# Altium footprint library LED_0603_LITEON_LTST.PcbLib: 1 footprints
Each footprint in its own frame and in the unit in brackets; x right, y up, seen from the top. Pads: shape width x height; smd on the part's side, far side on the other; paste and mask are expansions set on the pad; w line width, h text height; cw(c..) or ccw(c..) is an arc to the next point about the centre after c.
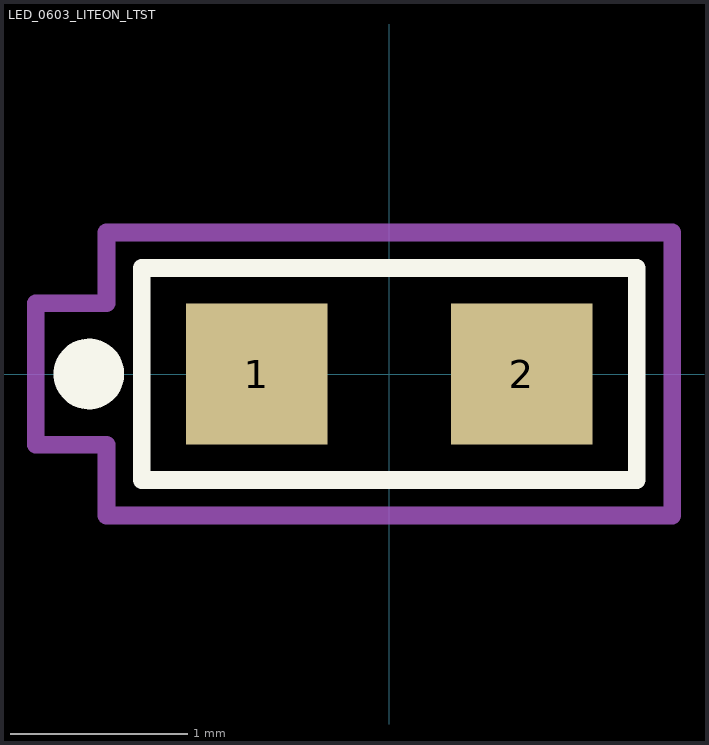
[diagram p0: the footprint, top view; thin cyan lines are the x and y axes]

## LED_0603_LITEON_LTST [mm]
pads (2):
  rect 0.8x0.8 smd: 1(-0.75,0) 2(0.75,0)
Top Overlay:
  circle w0.2: c-1.7,0 r0.1
  lines w0.1: -1.4,-0.6 -1.4,0.6 1.4,0.6 1.4,-0.6 -1.4,-0.6
Mechanical 15:
  lines w0.1: -2,-0.4 -1.6,-0.4 -1.6,-0.8 1.6,-0.8 1.6,0.8 -1.4,0.8 -1.6,0.8 -1.6,0.4 -2,0.4 -2,-0.4
3D body "led_LTST_C190EKT.STEP": height 0.9, standoff 0, extent -0.85,-0.45 0.85,0.45